# EAGLE library part PA241DF (library _RoweTel)
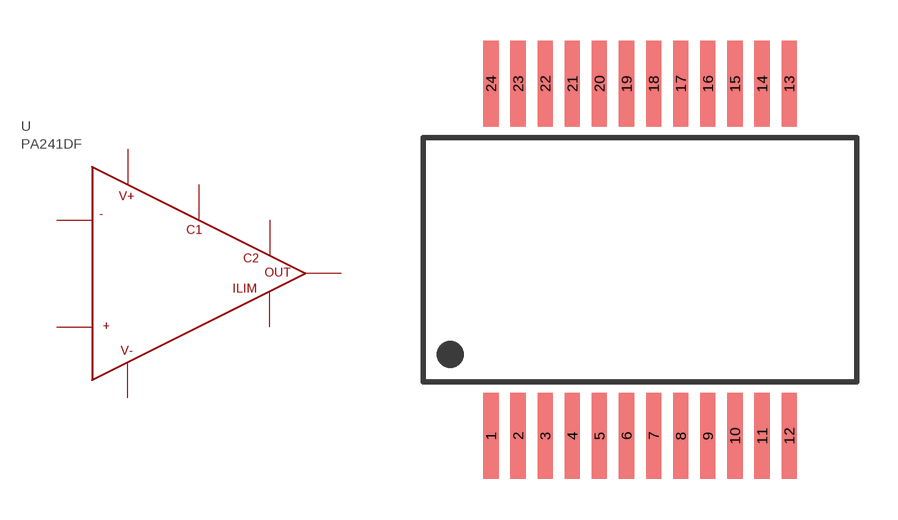
[diagram p48: symbol with the pads of MO-166; footprint MO-166]

Designator prefix U

## PA241DF  [MO-166]
5  5
7  7
12  12
13  13
15  15
17  17
19  19
21  21

## Footprint MO-166 (pad centres in mm)
smd 0.56 x 3.18: 1 -5.5,-6.5; 2 -4.5,-6.5; 3 -3.5,-6.5; 4 -2.5,-6.5; 5 -1.5,-6.5; 6 -0.5,-6.5; 7 0.5,-6.5; 8 1.5,-6.5; 9 2.5,-6.5; 10 3.5,-6.5; 11 4.5,-6.5; 12 5.5,-6.5; 13 5.5,6.5; 14 4.5,6.5; 15 3.5,6.5; 16 2.5,6.5; 17 1.5,6.5; 18 0.5,6.5; 19 -0.5,6.5; 20 -1.5,6.5; 21 -2.5,6.5; 22 -3.5,6.5; 23 -4.5,6.5; 24 -5.5,6.5